# EAGLE library part TPS40211 (library TI-parts)
CURRENT MODE BOOST CONTROLLER
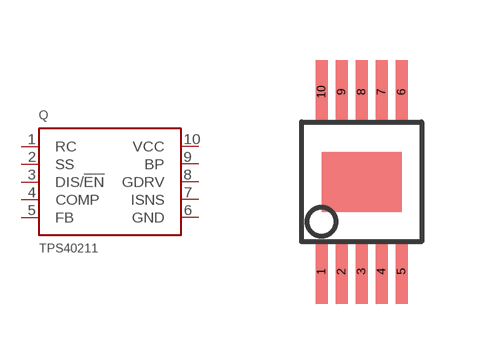
[diagram p0: symbol with the pads of MSOP-10; footprint MSOP-10]

Designator prefix Q

## TPS40211  [MSOP-10]
1  RC  in
2  SS  in
3  DIS/!EN  in
4  COMP  out
5  FB  in
6  GND  pwr
7  ISNS  in
8  GDRV  out
9  BP  out
10  VCC  pwr

## Footprint MSOP-10 (pad centres in mm)
10MSOP PowerPAD DGQ (S-PDSO-G10), 0.5mm, 10 pins
smd 0.3 x 1.6: 1 -1,-2.25; 2 -0.5,-2.25; 3 0,-2.25; 4 0.5,-2.25; 5 1,-2.25; 6 1,2.25; 7 0.5,2.25; 8 0,2.25; 9 -0.5,2.25; 10 -1,2.25